# Altium schematic symbol library Microver.SchLib: 988 symbols (part 10 of 17)
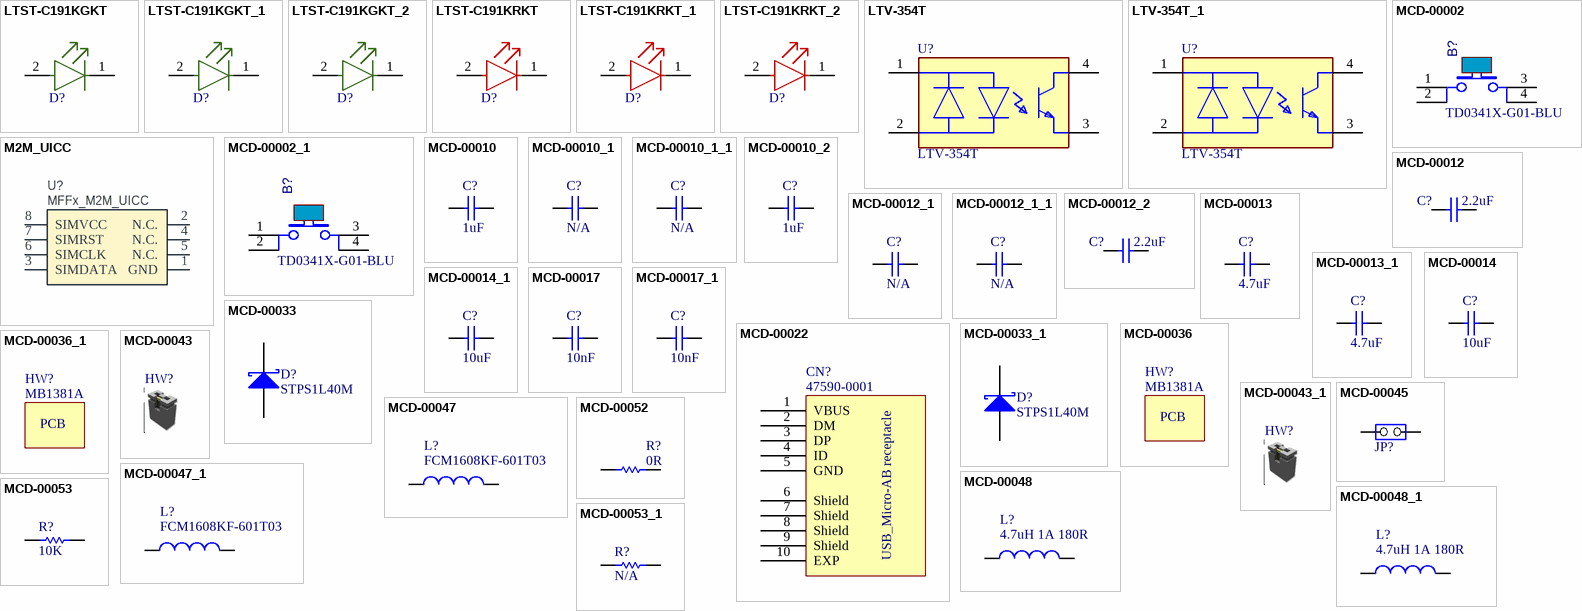
[diagram p38: symbols LTST-C191KGKT to MCD-00053_1]

## MCD-00012_1
designator C?, comment N/A
Capacitor, MLCC, 2.2uF, 10V, X5R, 10%, 0603, T=0,8mm; Internal_Part_Number: MCD-00012; Manufacturer_Part_Number: CC0603KRX5R6BB225; Manufacturer: YAGEO; Alternate_Manufacturer_Part_Number: C0603C225K8PACTU; Alternate_Manufacturer: KEMET; Provided_By: Subcon; Initial_Board_Reference: MB1274; Value: 2.2uF; Status: Released; Part_Type: Capacitor; Package: C0603; ComponentLink1Description: Yageo_Capacitor_X5R-series.pdf; ComponentLink1URL: http://tunmcdsvn.tun.st.com/Component_Datasheet_Library/Trunk/Capacitors/Yageo_Multilayer_capacitor_X5R_series_100pF_to_100uF; ECCN_US: n/a; ECCN_EU: n/a
footprint C0603
pins: 1, 2

## MCD-00012_1_1
designator C?, comment N/A
Capacitor, MLCC, 2.2uF, 10V, X5R, 10%, 0603, T=0,8mm; Internal_Part_Number: MCD-00012; Manufacturer_Part_Number: CC0603KRX5R6BB225; Manufacturer: YAGEO; Alternate_Manufacturer_Part_Number: C0603C225K8PACTU; Alternate_Manufacturer: KEMET; Provided_By: Subcon; Initial_Board_Reference: MB1274; Value: 2.2uF; Status: Released; Part_Type: Capacitor; Package: C0603; ComponentLink1Description: Yageo_Capacitor_X5R-series.pdf; ComponentLink1URL: http://tunmcdsvn.tun.st.com/Component_Datasheet_Library/Trunk/Capacitors/Yageo_Multilayer_capacitor_X5R_series_100pF_to_100uF; ECCN_US: n/a; ECCN_EU: n/a
footprint C0603
pins: 1, 2

## MCD-00012_2
designator C?, comment value 2.2uF  (hidden comment: Capacitor)
Capacitor, MLCC, 2.2uF, 10V, X5R, 10%, 0603, T=0,8mm; Internal_Part_Number: MCD-00012; Manufacturer_Part_Number: CC0603KRX5R6BB225; Manufacturer: YAGEO; Alternate_Manufacturer_Part_Number: C0603C225K8PACTU; Alternate_Manufacturer: KEMET; Provided_By: Subcon; Initial_Board_Reference: MB1274; Status: Released; Part_Type: Capacitor; Package: C0603; ComponentLink1Description: Yageo_Capacitor_X5R-series.pdf; ComponentLink1URL: http://tunmcdsvn.tun.st.com/Component_Datasheet_Library/Trunk/Capacitors/Yageo_Multilayer_capacitor_X5R_series_100pF_to_100uF; ECCN_US: n/a; ECCN_EU: n/a
footprint C0603
pins: 1, 2

## MCD-00013
designator C?, comment value 4.7uF  (hidden comment: Capacitor)
Capacitor, MLCC, 4.7uF, 50V, X7R, 10%, 1206, T=1,27mm; Internal_Part_Number: MCD-00013; Manufacturer_Part_Number: 12065C475KAT2A; Manufacturer: AVX; Provided_By: Subcon; Initial_Board_Reference: MB1274; Status: Released; Part_Type: Capacitor; Package: C1206; ComponentLink1Description: AVX_Capacitor_C0G-NP0-series.pdf; ComponentLink1URL: http://tunmcdsvn.tun.st.com/Component_Datasheet_Library/Trunk/Capacitors/AVX_Capacitor_C0G-NP0-series; ECCN_US: n/a; ECCN_EU: n/a
footprint C1206_H1P25
pins: 1, 2

## MCD-00013_1
designator C?, comment value 4.7uF  (hidden comment: Capacitor)
Capacitor, MLCC, 4.7uF, 50V, X7R, 10%, 1206, T=1,27mm; Internal_Part_Number: MCD-00013; Manufacturer_Part_Number: 12065C475KAT2A; Manufacturer: AVX; Provided_By: Subcon; Initial_Board_Reference: MB1274; Status: Released; Part_Type: Capacitor; Package: C1206; ComponentLink1Description: AVX_Capacitor_C0G-NP0-series.pdf; ComponentLink1URL: http://tunmcdsvn.tun.st.com/Component_Datasheet_Library/Trunk/Capacitors/AVX_Capacitor_C0G-NP0-series; ECCN_US: n/a; ECCN_EU: n/a
footprint C1206_H1P25
pins: 1, 2

## MCD-00014
designator C?, comment value 10uF  (hidden comment: Capacitor)
Capacitor, MLCC, 10uF, 25V, X5R, 10%, 0805, T=0,85mm; Internal_Part_Number: MCD-00014; Manufacturer_Part_Number: CC0805KRX5R8BB106; Manufacturer: YAGEO; Provided_By: Subcon; Initial_Board_Reference: mb1274; ECCN_US: n/a; ECCN_EU: n/a; ComponentLink1Description: Yageo_Capacitor_X5R-series.pdf; Status: Released; Part_Type: Capacitor; Package: C0805; ComponentLink1URL: http://tunmcdsvn.tun.st.com/Component_Datasheet_Library/Trunk/Capacitors/Yageo_Capacitor_X5R-series.pdf
footprint C0805
pins: 1, 2

## MCD-00014_1
designator C?, comment value 10uF  (hidden comment: Capacitor)
Capacitor, MLCC, 10uF, 25V, X5R, 10%, 0805, T=0,85mm; Internal_Part_Number: MCD-00014; Manufacturer_Part_Number: CC0805KRX5R8BB106; Manufacturer: YAGEO; Provided_By: Subcon; Initial_Board_Reference: mb1274; ECCN_US: n/a; ECCN_EU: n/a; ComponentLink1Description: Yageo_Capacitor_X5R-series.pdf; Status: Released; Part_Type: Capacitor; Package: C0805; ComponentLink1URL: http://tunmcdsvn.tun.st.com/Component_Datasheet_Library/Trunk/Capacitors/Yageo_Capacitor_X5R-series.pdf
footprint C0805
pins: 1, 2

## MCD-00017
designator C?, comment value 10nF  (hidden comment: Capacitor)
Capacitor, MLCC, 10nF, 50V, X7R, 10%, 0603, T=0.8mm; Internal_Part_Number: MCD-00017; Manufacturer_Part_Number: CC0603KRX7R9BB103; Manufacturer: YAGEO; Provided_By: Subcon; Initial_Board_Reference: MB1274; Status: Released; Part_Type: Capacitor; Package: C0603; ComponentLink1Description: Yageo_Capacitor_X7R-series.pdf; ComponentLink1URL: http://tunmcdsvn.tun.st.com/Component_Datasheet_Library/Trunk/Capacitors/Yageo_Multilayer_Capacitor_X7R_series_100pF_to_22uF; ECCN_US: n/a; ECCN_EU: n/a
footprint C0603
pins: 1, 2

## MCD-00017_1
designator C?, comment value 10nF  (hidden comment: Capacitor)
Capacitor, MLCC, 10nF, 50V, X7R, 10%, 0603, T=0.8mm; Internal_Part_Number: MCD-00017; Manufacturer_Part_Number: CC0603KRX7R9BB103; Manufacturer: YAGEO; Provided_By: Subcon; Initial_Board_Reference: MB1274; Status: Released; Part_Type: Capacitor; Package: C0603; ComponentLink1Description: Yageo_Capacitor_X7R-series.pdf; ComponentLink1URL: http://tunmcdsvn.tun.st.com/Component_Datasheet_Library/Trunk/Capacitors/Yageo_Multilayer_Capacitor_X7R_series_100pF_to_22uF; ECCN_US: n/a; ECCN_EU: n/a
footprint C0603
pins: 1, 2

## MCD-00022
designator CN?, comment Manufacturer_Part_Number: 47590-0001  (hidden comment: USB_uAB_47590.0001)
USB-MICRO-AB, 0.65mm, RA, SMT, Top Mount (compatible with MCD-00661 USB certified); Internal_Part_Number: MCD-00022; Part_Type: Connector; Manufacturer: MOLEX; Alternate_Manufacturer_Part_Number: ZX62D-AB-5P8(30); Alternate_Manufacturer: HIROSE; Provided_By: Subcon; Initial_Board_Reference: MB1274; Value: USB_uAB_47590.0001; Status: Released; ComponentLink1Description: Molex_Connector-USB-microAB_47590-0001.pdf; ComponentLink1URL: http://tunmcdsvn.tun.st.com/Component_Datasheet_Library/Trunk/Connectors/Molex_Connector-USB-microAB_47590-0001; ECCN_US: n/a; ECCN_EU: n/a
footprint CON_USBMICROAB_MOLEX_47590-0001_H3
pins: 1 VBUS, 2 DM, 3 DP, 4 ID, 5 GND, 6 Shield, 7 Shield, 8 Shield, 9 Shield, 10 EXP
text: USB_Micro-AB receptacle

## MCD-00033
designator D?, comment STPS1L40M
Low Drop power Schottky rectifier(1A, 40V, 0.4V); Internal_Part_Number: MCD-00033; Part_Type: Diode; Manufacturer: STMICROELECTRONICS; ECCN_US: EAR99; ECCN_EU: NEC; Provided_By: Subcon; Initial_Board_Reference: MB1274; Value: STPS1L40M; Status: Released; Manufacturer_Part_Number: STPS1L40M; ComponentLink1Description: STM_Diode_STPS1L40M_DO216-AA.pdf; ComponentLink1URL: http://tunmcdsvn.tun.st.com/Component_Datasheet_Library/Trunk/Diodes/STM_Diode_STPS1L40M_DO216-AA
footprint DIO_DO216-AA
pins: 1 A, 2 K

## MCD-00033_1
designator D?, comment STPS1L40M
Low Drop power Schottky rectifier(1A, 40V, 0.4V); Internal_Part_Number: MCD-00033; Part_Type: Diode; Manufacturer: STMICROELECTRONICS; ECCN_US: EAR99; ECCN_EU: NEC; Provided_By: Subcon; Initial_Board_Reference: MB1274; Value: STPS1L40M; Status: Released; Manufacturer_Part_Number: STPS1L40M; ComponentLink1Description: STM_Diode_STPS1L40M_DO216-AA.pdf; ComponentLink1URL: http://tunmcdsvn.tun.st.com/Component_Datasheet_Library/Trunk/Diodes/STM_Diode_STPS1L40M_DO216-AA
footprint DIO_DO216-AA
pins: 1 A, 2 K

## MCD-00036
designator HW?, comment value MB1381A  (hidden comment: PCB)  (mechanical)
PCB, xxxx for PCB ref, Y for revision; Internal_Part_Number: MCD-00036; Part_Type: Mechanical; Provided_By: Subcon; Initial_Board_Reference: MB1274; Status: Released; ECCN_US: n/a; ECCN_EU: n/a

## MCD-00036_1
designator HW?, comment value MB1381A  (hidden comment: PCB)  (mechanical)
PCB, xxxx for PCB ref, Y for revision; Internal_Part_Number: MCD-00036; Part_Type: Mechanical; Provided_By: Subcon; Initial_Board_Reference: MB1274; Status: Released; ECCN_US: n/a; ECCN_EU: n/a

## MCD-00043
designator HW?, comment Shunt 2.54mm  (value not drawn)  (mechanical)
SHUNT 2.54mm BLACK; Internal_Part_Number: MCD-00043; Manufacturer_Part_Number: SNT-100-BK-G; Manufacturer: SAMTEC; Provided_By: Subcon; PartType: Mechanical; ECCN_US: n/a; ECCN_EU: n/a; ComponentLink1Description: Samtec_Shunt_Jumper_SNT100.pdf
footprint N/A

## MCD-00043_1
designator HW?, comment Shunt 2.54mm  (value not drawn)  (mechanical)
SHUNT 2.54mm BLACK; Internal_Part_Number: MCD-00043; Manufacturer_Part_Number: SNT-100-BK-G; Manufacturer: SAMTEC; Provided_By: Subcon; PartType: Mechanical; ECCN_US: n/a; ECCN_EU: n/a; ComponentLink1Description: Samtec_Shunt_Jumper_SNT100.pdf
footprint N/A

## MCD-00045
designator JP?, comment Jumper Header 2x1  (value not drawn)
Header, 2x1, 2,54mm, VR, TH, Height 5.84mm/2.54mm; Internal_Part_Number: MCD-00045; Manufacturer_Part_Number: TSW-102-07-x-S; Manufacturer: SAMTEC; Part_Type: Connector; Value: Jumper_Header_2x1; Provided_By: Subcon; Initial_Board_Reference: mb1274; Status: Released; ComponentLink1Description: Samtec_connector_TSW-HTSW-series.pdf; ECCN_US: n/a; ECCN_EU: n/a; ComponentLink1URL: http://tunmcdsvn.tun.st.com/Component_Datasheet_Library/Trunk/Connectors/Samtec_connector_TSW-HTSW-series.pdf
footprint CON_SAMTEC_TSW-102-07-G-S
pins: 1 COMMON, 2 NO

## MCD-00047
designator L?, comment Manufacturer_Part_Number: FCM1608KF-601T03  (hidden comment: BEAD)
SMD Chip ferrite bead, 600R@100MHz +/-25%, 350mA, 500mohm DC, 0603, T=0.8mm; Internal_Part_Number: MCD-00047; Part_Type: Inductor; Manufacturer: TAI-TECH; Provided_By: Subcon; Initial_Board_Reference: MB1274; Value: 600R@100MHz; Status: Released; ComponentLink1Description: TaiTech_Bead_FCM1608_series.pdf; ComponentLink1URL: http://tunmcdsvn.tun.st.com/Component_Datasheet_Library/Trunk/Inductors/TaiTech_Bead_FCM1608_series; ECCN_US: n/a; ECCN_EU: n/a
footprint L0603
pins: 1, 2

## MCD-00047_1
designator L?, comment Manufacturer_Part_Number: FCM1608KF-601T03  (hidden comment: BEAD)
SMD Chip ferrite bead, 600R@100MHz +/-25%, 350mA, 500mohm DC, 0603, T=0.8mm; Internal_Part_Number: MCD-00047; Part_Type: Inductor; Manufacturer: TAI-TECH; Provided_By: Subcon; Initial_Board_Reference: MB1274; Value: 600R@100MHz; Status: Released; ComponentLink1Description: TaiTech_Bead_FCM1608_series.pdf; ComponentLink1URL: http://tunmcdsvn.tun.st.com/Component_Datasheet_Library/Trunk/Inductors/TaiTech_Bead_FCM1608_series; ECCN_US: n/a; ECCN_EU: n/a
footprint L0603
pins: 1, 2

## MCD-00048
designator L?, comment value 4.7uH 1A 180R  (hidden comment: Inductor)
FIXED IND 4.7UH 1A 180 MOHM 30% SMD; Internal_Part_Number: MCD-00048; Manufacturer_Part_Number: LQH32PN4R7NN0L; Manufacturer: MURATA; Provided_By: Subcon; Initial_Board_Reference: MB1274; Status: Released; Part_Type: Inductor; ComponentLink1Description: Murata_Inductor_LQH32PN4R7NN0L.pdf; ComponentLink1URL: http://tunmcdsvn.tun.st.com/Component_Datasheet_Library/Trunk/Inductors/Murata_Inductor_LQH32PN4R7NN0L; ECCN_US: n/a; ECCN_EU: n/a
footprint L1210_LQH
pins: 1, 2

## MCD-00048_1
designator L?, comment value 4.7uH 1A 180R  (hidden comment: Inductor)
FIXED IND 4.7UH 1A 180 MOHM 30% SMD; Internal_Part_Number: MCD-00048; Manufacturer_Part_Number: LQH32PN4R7NN0L; Manufacturer: MURATA; Provided_By: Subcon; Initial_Board_Reference: MB1274; Status: Released; Part_Type: Inductor; ComponentLink1Description: Murata_Inductor_LQH32PN4R7NN0L.pdf; ComponentLink1URL: http://tunmcdsvn.tun.st.com/Component_Datasheet_Library/Trunk/Inductors/Murata_Inductor_LQH32PN4R7NN0L; ECCN_US: n/a; ECCN_EU: n/a
footprint L1210_LQH
pins: 1, 2

## MCD-00052
designator R?, comment value 0R  (hidden comment: Resistor)
Resistor,0R,0402,5%,1/16W; Internal_Part_Number: MCD-00052; Manufacturer_Part_Number: RC0402JR-070RL; Manufacturer: YAGEO; Provided_By: Subcon; Initial_Board_Reference: MB1274; Status: Released; Part_Type: Resistor; Package: R0402; ComponentLink1Description: Yageo_Resistor_RC0402-series.pdf; ComponentLink1URL: http://tunmcdsvn.tun.st.com/Component_Datasheet_Library/Trunk/Resistors/Yageo_Resistor_RC0402-series; ECCN_US: n/a; ECCN_EU: n/a
footprint R0402
pins: 1, 2

## MCD-00053
designator R?, comment value 10K  (hidden comment: Resistor)
Resistor,10K,0402,1%,1/16W; Internal_Part_Number: MCD-00053; Manufacturer_Part_Number: RC0402FR-0710KL; Manufacturer: YAGEO; Provided_By: subcon; Initial_Board_Reference: MB1274; Status: Released; Part_Type: Resistor; Package: R0402; ComponentLink1Description: Yageo_Resistor_RC0402-series.pdf; ComponentLink1URL: http://tunmcdsvn.tun.st.com/Component_Datasheet_Library/Trunk/Resistors/Yageo_Resistor_RC0402-series; ECCN_US: n/a; ECCN_EU: n/a
footprint R0402
pins: 1, 2

## MCD-00053_1
designator R?, comment N/A
Resistor,10K,0402,1%,1/16W; Internal_Part_Number: MCD-00053; Manufacturer_Part_Number: RC0402FR-0710KL; Manufacturer: YAGEO; Provided_By: subcon; Initial_Board_Reference: MB1274; Value: 10K; Status: Released; Part_Type: Resistor; Package: R0402; ComponentLink1Description: Yageo_Resistor_RC0402-series.pdf; ComponentLink1URL: http://tunmcdsvn.tun.st.com/Component_Datasheet_Library/Trunk/Resistors/Yageo_Resistor_RC0402-series; ECCN_US: n/a; ECCN_EU: n/a
footprint R0402
pins: 1, 2

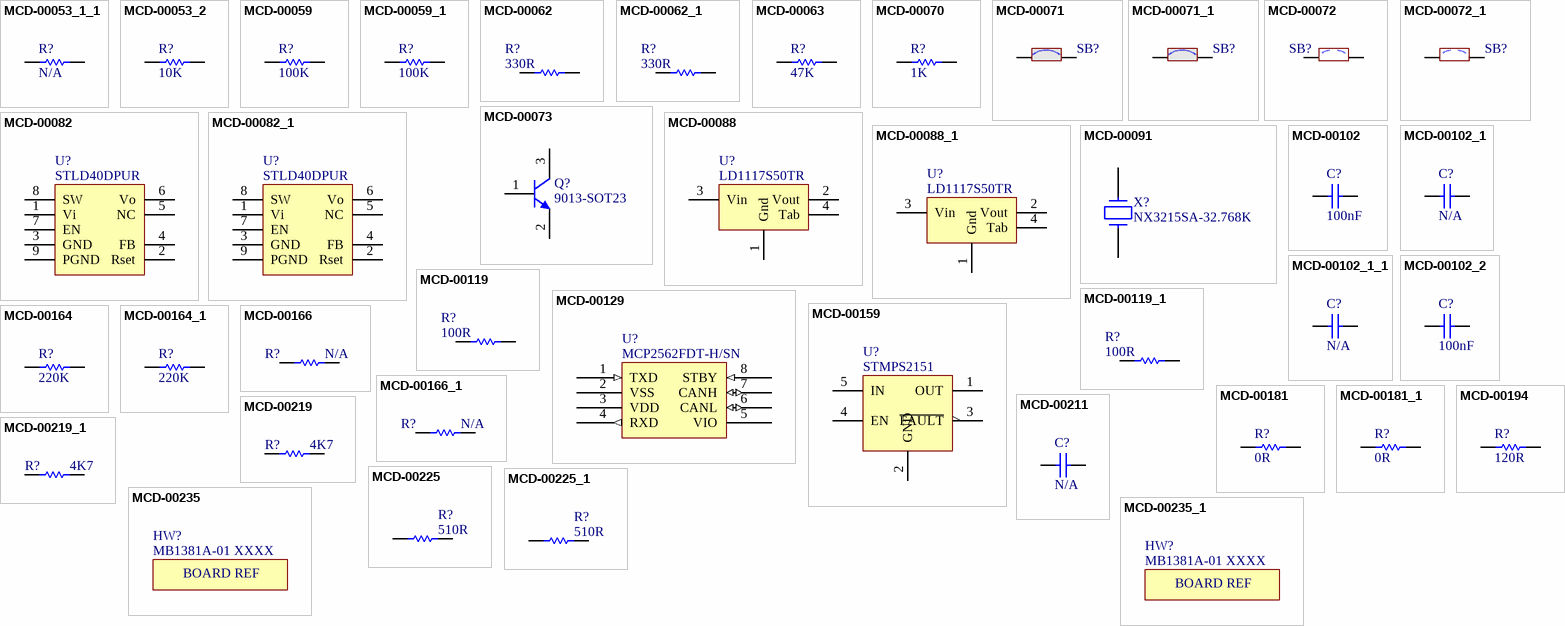
[diagram p17: symbols MCD-00053_1_1 to MCD-00235_1]

## MCD-00053_1_1
designator R?, comment N/A
Resistor,10K,0402,1%,1/16W; Internal_Part_Number: MCD-00053; Manufacturer_Part_Number: RC0402FR-0710KL; Manufacturer: YAGEO; Provided_By: subcon; Initial_Board_Reference: MB1274; Value: 10K; Status: Released; Part_Type: Resistor; Package: R0402; ComponentLink1Description: Yageo_Resistor_RC0402-series.pdf; ComponentLink1URL: http://tunmcdsvn.tun.st.com/Component_Datasheet_Library/Trunk/Resistors/Yageo_Resistor_RC0402-series; ECCN_US: n/a; ECCN_EU: n/a
footprint R0402
pins: 1, 2

## MCD-00053_2
designator R?, comment value 10K  (hidden comment: Resistor)
Resistor,10K,0402,1%,1/16W; Internal_Part_Number: MCD-00053; Manufacturer_Part_Number: RC0402FR-0710KL; Manufacturer: YAGEO; Provided_By: subcon; Initial_Board_Reference: MB1274; Status: Released; Part_Type: Resistor; Package: R0402; ComponentLink1Description: Yageo_Resistor_RC0402-series.pdf; ComponentLink1URL: http://tunmcdsvn.tun.st.com/Component_Datasheet_Library/Trunk/Resistors/Yageo_Resistor_RC0402-series; ECCN_US: n/a; ECCN_EU: n/a
footprint R0402
pins: 1, 2

## MCD-00059
designator R?, comment value 100K  (hidden comment: Resistor)
Resistor,100K,0402,1%,1/16W; Internal_Part_Number: MCD-00059; Manufacturer_Part_Number: RC0402FR-07100KL; Manufacturer: YAGEO; Alternate_Manufacturer_Part_Number: RT0402FRE07100KL; Provided_By: Subcon; Initial_Board_Reference: MB1274; Status: Released; Part_Type: Resistor; Alternate_Manufacturer: YAGEO; Package: R0402; ComponentLink1Description: Yageo_Resistor_RC0402-series.pdf; ComponentLink1URL: http://tunmcdsvn.tun.st.com/Component_Datasheet_Library/Trunk/Resistors/Yageo_Resistor_RC0402-series; ECCN_US: n/a; ECCN_EU: n/a
footprint R0402
pins: 1, 2

## MCD-00059_1
designator R?, comment value 100K  (hidden comment: Resistor)
Resistor,100K,0402,1%,1/16W; Internal_Part_Number: MCD-00059; Manufacturer_Part_Number: RC0402FR-07100KL; Manufacturer: YAGEO; Alternate_Manufacturer_Part_Number: RT0402FRE07100KL; Provided_By: Subcon; Initial_Board_Reference: MB1274; Status: Released; Part_Type: Resistor; Alternate_Manufacturer: YAGEO; Package: R0402; ComponentLink1Description: Yageo_Resistor_RC0402-series.pdf; ComponentLink1URL: http://tunmcdsvn.tun.st.com/Component_Datasheet_Library/Trunk/Resistors/Yageo_Resistor_RC0402-series; ECCN_US: n/a; ECCN_EU: n/a
footprint R0402
pins: 1, 2

## MCD-00062
designator R?, comment value 330R  (hidden comment: Resistor)
Resistor,330R,0402,1%,1/16W; Internal_Part_Number: MCD-00062; Manufacturer_Part_Number: RC0402FR-07330RL; Manufacturer: YAGEO; Provided_By: Subcon; Initial_Board_Reference: MB1274; Status: Released; Part_Type: Resistor; Package: R0402; ComponentLink1Description: Yageo_Resistor_RC0402-series.pdf; ComponentLink1URL: http://tunmcdsvn.tun.st.com/Component_Datasheet_Library/Trunk/Resistors/Yageo_Resistor_RC0402-series; ECCN_US: n/a; ECCN_EU: n/a
footprint R0402
pins: 1, 2

## MCD-00062_1
designator R?, comment value 330R  (hidden comment: Resistor)
Resistor,330R,0402,1%,1/16W; Internal_Part_Number: MCD-00062; Manufacturer_Part_Number: RC0402FR-07330RL; Manufacturer: YAGEO; Provided_By: Subcon; Initial_Board_Reference: MB1274; Status: Released; Part_Type: Resistor; Package: R0402; ComponentLink1Description: Yageo_Resistor_RC0402-series.pdf; ComponentLink1URL: http://tunmcdsvn.tun.st.com/Component_Datasheet_Library/Trunk/Resistors/Yageo_Resistor_RC0402-series; ECCN_US: n/a; ECCN_EU: n/a
footprint R0402
pins: 1, 2

## MCD-00063
designator R?, comment value 47K  (hidden comment: Resistor)
Resistor,47K,0402,1%,1/16W; Internal_Part_Number: MCD-00063; Manufacturer_Part_Number: RC0402FR-0747KL; Manufacturer: YAGEO; Provided_By: Subcon; Initial_Board_Reference: MB1274; Status: Released; Part_Type: Resistor; Package: R0402; ComponentLink1Description: Yageo_Resistor_RC0402-series.pdf; ComponentLink1URL: http://tunmcdsvn.tun.st.com/Component_Datasheet_Library/Trunk/Resistors/Yageo_Resistor_RC0402-series; ECCN_US: n/a; ECCN_EU: n/a
footprint R0402
pins: 1, 2

## MCD-00070
designator R?, comment value 1K  (hidden comment: Resistor)
Resistor,1K,0603,1%,1/10W; Internal_Part_Number: MCD-00070; Manufacturer_Part_Number: RC0603FR-071KL; Manufacturer: YAGEO; Provided_By: Subcon; Initial_Board_Reference: mb1274; Status: Released; Part_Type: Resistor; Package: R0603; ComponentLink1Description: Yageo_Resistor_RC0603-series.pdf; ComponentLink1URL: http://tunmcdsvn.tun.st.com/Component_Datasheet_Library/Trunk/Resistors/Yageo_Resistor_RC0603-series.pdf; ECCN_US: n/a; ECCN_EU: n/a
footprint R0603
pins: 1, 2

## MCD-00071
designator SB?, comment SB_ON  (value not drawn)
Solder Bridge ON; Internal_Part_Number: MCD-00071; Part_Type: Mechanical; Manufacturer_Part_Number: RCG06030000Z0EA; Provided_By: Subcon; Initial_Board_Reference: mb1274; ECCN_US: n/a; ECCN_EU: n/a; Status: Released
footprint SOLDER-BRIDGE_R0603-0R
pins: 1, 2

## MCD-00071_1
designator SB?, comment SB_ON  (value not drawn)
Solder Bridge ON; Internal_Part_Number: MCD-00071; Part_Type: Mechanical; Provided_By: Subcon; Initial_Board_Reference: mb1274; ECCN_US: n/a; ECCN_EU: n/a; Status: Released
footprint SOLDER-BRIDGE_R0603-0R
pins: 1, 2

## MCD-00072
designator SB?, comment SB_OFF  (value not drawn)
Solder Bridge OFF; Internal_Part_Number: MCD-00072; Part_Type: Mechanical; Manufacturer_Part_Number: RCG06030000Z0EA; Initial_Board_Reference: mb1274; Status: Released; ECCN_US: n/a; ECCN_EU: n/a; Provided_By: n/a
footprint SOLDER-BRIDGE_R0603-0R
pins: 1, 2

## MCD-00072_1
designator SB?, comment SB_OFF  (value not drawn)
Solder Bridge OFF; Internal_Part_Number: MCD-00072; Part_Type: Mechanical; Initial_Board_Reference: mb1274; Status: Released; ECCN_US: n/a; ECCN_EU: n/a; Provided_By: n/a
footprint SOLDER-BRIDGE_R0603-0R
pins: 1, 2

## MCD-00073
designator Q?, comment 9013-SOT23
NPN Bipolar Transistor; Internal_Part_Number: MCD-00073; Part_Type: IC; Manufacturer_Part_Number: BSR14; Manufacturer: NXP; ECCN_US: EAR99; ECCN_EU: NEC; Provided_By: Subcon; Initial_Board_Reference: MB1274; Revision: *; Value: 9013-SOT23; Status: Released; ComponentLink1Description: NXP_Transistor_BSR14.pdf; ComponentLink1URL: http://tunmcdsvn.tun.st.com/Component_Datasheet_Library/Trunk/IC/NXP_Transistor_BSR14
footprint NPN_SOT23
pins: 1 B, 2 E, 3 C

## MCD-00082
designator U?, comment STLD40DPUR
White LED power supply for large display backlight, QFN8; Internal_Part_Number: MCD-00082; Part_Type: IC; Manufacturer: STMICROELECTRONICS; ECCN_US: EAR99; ECCN_EU: NEC; Provided_By: Subcon; Initial_Board_Reference: MB1274; Value: STLD40DPUR; Status: Released; Manufacturer_Part_Number: STLD40DPUR; ComponentLink1Description: STM_White-LED-PWR_STLD40DPUR_QFN8.pdf; ComponentLink1URL: http://tunmcdsvn.tun.st.com/Component_Datasheet_Library/Trunk/IC/STM_White-LED-PWR_STLD40DPUR_QFN8
footprint ICC_QFN8-EPAD_3X3_P065
pins: 1 Vi, 2 Rset, 3 GND, 4 FB, 5 NC, 6 Vo, 7 EN, 8 SW, 9 PGND

## MCD-00082_1
designator U?, comment STLD40DPUR
White LED power supply for large display backlight, QFN8; Internal_Part_Number: MCD-00082; Part_Type: IC; Manufacturer: STMICROELECTRONICS; ECCN_US: EAR99; ECCN_EU: NEC; Provided_By: Subcon; Initial_Board_Reference: MB1274; Value: STLD40DPUR; Status: Released; Manufacturer_Part_Number: STLD40DPUR; ComponentLink1Description: STM_White-LED-PWR_STLD40DPUR_QFN8.pdf; ComponentLink1URL: http://tunmcdsvn.tun.st.com/Component_Datasheet_Library/Trunk/IC/STM_White-LED-PWR_STLD40DPUR_QFN8
footprint ICC_QFN8-EPAD_3X3_P065
pins: 1 Vi, 2 Rset, 3 GND, 4 FB, 5 NC, 6 Vo, 7 EN, 8 SW, 9 PGND

## MCD-00088
designator U?, comment LD1117S50TR
IC REG LDO 5V 0.8A SOT223; Internal_Part_Number: MCD-00088; Manufacturer: STMICROELECTRONICS; ECCN_US: EAR99; ECCN_EU: NEC; Provided_By: Subcon; Initial_Board_Reference: mb1274; Value: LD1117S50TR; Status: Released; Part_Type: IC; Manufacturer_Part_Number: LD1117S50TR; ComponentLink1Description: STM_LDO_LD1117.pdf; ComponentLink1URL: http://tunmcdsvn.tun.st.com/Component_Datasheet_Library/Trunk/IC/STM_LDO_LD1117.pdf
footprint REG_SOT223-TAB
pins: 1 Gnd, 2 Vout, 3 Vin, 4 Tab

## MCD-00088_1
designator U?, comment LD1117S50TR
IC REG LDO 5V 0.8A SOT223; Internal_Part_Number: MCD-00088; Manufacturer: STMICROELECTRONICS; ECCN_US: EAR99; ECCN_EU: NEC; Provided_By: Subcon; Initial_Board_Reference: mb1274; Value: LD1117S50TR; Status: Released; Part_Type: IC; Manufacturer_Part_Number: LD1117S50TR; ComponentLink1Description: STM_LDO_LD1117.pdf; ComponentLink1URL: http://tunmcdsvn.tun.st.com/Component_Datasheet_Library/Trunk/IC/STM_LDO_LD1117.pdf
footprint REG_SOT223-TAB
pins: 1 Gnd, 2 Vout, 3 Vin, 4 Tab

## MCD-00091
designator X?, comment value NX3215SA-32.768K  (hidden comment: XTAL_32K_NX3215SA)
Crystal 32.768kHz, 6pF, -+20PPM, R=50K, SMD; Internal_Part_Number: MCD-00091; Part_Type: Crystal_Osc; Manufacturer_Part_Number: NX3215SA 32.768KHz EXS00A-MU00525; Manufacturer: NDK; ECCN_US: EAR99; ECCN_EU: NEC; Provided_By: STM; Initial_Board_Reference: mb1274; Status: Released; ComponentLink1Description: NDK_Crystal-For-ST_NX3215SA 32.768KHz EXS00A-MU00525 (EXS10B-21238).pdf; ComponentLink1URL: http://tunmcdsvn.tun.st.com/Component_Datasheet_Library/Trunk/Crystal_Osc/NDK_Crystal-For-ST_NX3215SA 32.768KHz EXS00A-MU00525 (EXS10B-21238).pdf
footprint CRY_NX3215SA_2P
pins: 1, 2
2 alternate drawings of the same symbol

## MCD-00102
designator C?, comment value 100nF  (hidden comment: Capacitor)
Capacitor, MLCC, 100nF, 16V, X7R, 10%, 0402, T=0,5mm; Internal_Part_Number: MCD-00102; Manufacturer_Part_Number: CC0402KRX7R7BB104; Manufacturer: YAGEO; Provided_By: Subcon; Initial_Board_Reference: MB1262; Status: Released; Part_Type: Capacitor; Package: C0402; ComponentLink1Description: Yageo_Capacitor_X7R-series.pdf; ComponentLink1URL: http://tunmcdsvn.tun.st.com/Component_Datasheet_Library/Trunk/Capacitors/Yageo_Multilayer_Capacitor_X7R_series_100pF_to_22uF; ECCN_US: n/a; ECCN_EU: n/a
footprint C0402
pins: 1, 2

## MCD-00102_1
designator C?, comment N/A
Capacitor, MLCC, 100nF, 16V, X7R, 10%, 0402, T=0,5mm; Internal_Part_Number: MCD-00102; Manufacturer_Part_Number: CC0402KRX7R7BB104; Manufacturer: YAGEO; Provided_By: Subcon; Initial_Board_Reference: MB1262; Value: 100nF; Status: Released; Part_Type: Capacitor; Package: C0402; ComponentLink1Description: Yageo_Capacitor_X7R-series.pdf; ComponentLink1URL: http://tunmcdsvn.tun.st.com/Component_Datasheet_Library/Trunk/Capacitors/Yageo_Multilayer_Capacitor_X7R_series_100pF_to_22uF; ECCN_US: n/a; ECCN_EU: n/a
footprint C0402
pins: 1, 2

## MCD-00102_1_1
designator C?, comment N/A
Capacitor, MLCC, 100nF, 16V, X7R, 10%, 0402, T=0,5mm; Internal_Part_Number: MCD-00102; Manufacturer_Part_Number: CC0402KRX7R7BB104; Manufacturer: YAGEO; Provided_By: Subcon; Initial_Board_Reference: MB1262; Value: 100nF; Status: Released; Part_Type: Capacitor; Package: C0402; ComponentLink1Description: Yageo_Capacitor_X7R-series.pdf; ComponentLink1URL: http://tunmcdsvn.tun.st.com/Component_Datasheet_Library/Trunk/Capacitors/Yageo_Multilayer_Capacitor_X7R_series_100pF_to_22uF; ECCN_US: n/a; ECCN_EU: n/a
footprint C0402
pins: 1, 2

## MCD-00102_2
designator C?, comment value 100nF  (hidden comment: Capacitor)
Capacitor, MLCC, 100nF, 16V, X7R, 10%, 0402, T=0,5mm; Internal_Part_Number: MCD-00102; Manufacturer_Part_Number: CC0402KRX7R7BB104; Manufacturer: YAGEO; Provided_By: Subcon; Initial_Board_Reference: MB1262; Status: Released; Part_Type: Capacitor; Package: C0402; ComponentLink1Description: Yageo_Capacitor_X7R-series.pdf; ComponentLink1URL: http://tunmcdsvn.tun.st.com/Component_Datasheet_Library/Trunk/Capacitors/Yageo_Multilayer_Capacitor_X7R_series_100pF_to_22uF; ECCN_US: n/a; ECCN_EU: n/a
footprint C0402
pins: 1, 2

## MCD-00119
designator R?, comment value 100R  (hidden comment: Resistor)
Resistor,100R,0402,1%,1/16W; Internal_Part_Number: MCD-00119; Manufacturer_Part_Number: RC0402FR-07100RL; Manufacturer: YAGEO; Provided_By: Subcon; Initial_Board_Reference: MB1262; Status: Released; Part_Type: Resistor; Package: R0402; ComponentLink1Description: Yageo_Resistor_RC0402-series.pdf; ComponentLink1URL: http://tunmcdsvn.tun.st.com/Component_Datasheet_Library/Trunk/Resistors/Yageo_Resistor_RC0402-series; ECCN_US: n/a; ECCN_EU: n/a
footprint R0402
pins: 1, 2

## MCD-00119_1
designator R?, comment value 100R  (hidden comment: Resistor)
Resistor,100R,0402,1%,1/16W; Internal_Part_Number: MCD-00119; Manufacturer_Part_Number: RC0402FR-07100RL; Manufacturer: YAGEO; Provided_By: Subcon; Initial_Board_Reference: MB1262; Status: Released; Part_Type: Resistor; Package: R0402; ComponentLink1Description: Yageo_Resistor_RC0402-series.pdf; ComponentLink1URL: http://tunmcdsvn.tun.st.com/Component_Datasheet_Library/Trunk/Resistors/Yageo_Resistor_RC0402-series; ECCN_US: n/a; ECCN_EU: n/a
footprint R0402
pins: 1, 2

## MCD-00129
designator U?, comment value MCP2562FDT-H/SN  (hidden comment: MCP2562FD)
High-Speed CAN Flexible Data Rate Transceiver; Internal_Part_Number: MCD-00129; Part_Type: IC; Manufacturer: MICROCHIP; ECCN_US: EAR99; ECCN_EU: NEC; Provided_By: Subcon; Initial_Board_Reference: MB1262; Status: Released; Manufacturer_Part_Number: MCP2562FDT-H/SN; ComponentLink1Description: Microchip_CAN Transceiver_MCP2562FD.pdf; ComponentLink1URL: http://tunmcdsvn.tun.st.com/Component_Datasheet_Library/Trunk/IC/Microchip_CAN Transceiver_MCP2562FD
footprint ICC_SO8_5X4_P127
pins: 1 TXD (in), 2 VSS (power), 3 VDD (power), 4 RXD (out), 5 VIO (power), 6 CANL (io), 7 CANH (io), 8 STBY (in)

## MCD-00159
designator U?, comment value STMPS2151  (hidden comment: STMPS2151STR)
500mA, Enhanced single channel power switches with active high enable pin; Internal_Part_Number: MCD-00159; Part_Type: IC; Manufacturer: STMICROELECTRONICS; ECCN_US: EAR99; ECCN_EU: NEC; Provided_By: Subcon; Initial_Board_Reference: MB1264; Status: Footprint available; Manufacturer_Part_Number: STMPS2151STR; ComponentLink1Description: STM_PWR-Switch_STMPS2151STR.pdf; ComponentLink1URL: http://tunmcdsvn.tun.st.com/Component_Datasheet_Library/Trunk/IC/STM_PWR-Switch_STMPS2151STR
footprint MOS_SOT23-5L
pins: 1 OUT, 2 GND, 3 ~{FAULT}, 4 EN, 5 IN

## MCD-00164
designator R?, comment value 220K  (hidden comment: Resistor)
Resistor,220K,0402,1%,1/16W; Internal_Part_Number: MCD-00164; Manufacturer_Part_Number: RC0402FR-07220KL; Manufacturer: YAGEO; Provided_By: Subcon; Initial_Board_Reference: MB1264; Status: Footprint available; Part_Type: Resistor; Package: R0402; ComponentLink1Description: Yageo_Resistor_RC0402-series.pdf; ComponentLink1URL: http://tunmcdsvn.tun.st.com/Component_Datasheet_Library/Trunk/Resistors/Yageo_Resistor_RC0402-series; ECCN_US: n/a; ECCN_EU: n/a
footprint R0402
pins: 1, 2

## MCD-00164_1
designator R?, comment value 220K  (hidden comment: Resistor)
Resistor,220K,0402,1%,1/16W; Internal_Part_Number: MCD-00164; Manufacturer_Part_Number: RC0402FR-07220KL; Manufacturer: YAGEO; Provided_By: Subcon; Initial_Board_Reference: MB1264; Status: Footprint available; Part_Type: Resistor; Package: R0402; ComponentLink1Description: Yageo_Resistor_RC0402-series.pdf; ComponentLink1URL: http://tunmcdsvn.tun.st.com/Component_Datasheet_Library/Trunk/Resistors/Yageo_Resistor_RC0402-series; ECCN_US: n/a; ECCN_EU: n/a
footprint R0402
pins: 1, 2

## MCD-00166
designator R?, comment N/A
Resistor,120K,0402,1%,1/16W; Internal_Part_Number: MCD-00166; Manufacturer_Part_Number: RC0402FR-07120KL; Manufacturer: YAGEO; Provided_By: Subcon; Initial_Board_Reference: MB1264; Value: 120K; Status: Footprint available; Part_Type: Resistor; Package: R0402; ComponentLink1Description: Yageo_Resistor_RC0402-series.pdf; ComponentLink1URL: http://tunmcdsvn.tun.st.com/Component_Datasheet_Library/Trunk/Resistors/Yageo_Resistor_RC0402-series; ECCN_US: n/a; ECCN_EU: n/a
footprint R0402
pins: 1, 2

## MCD-00166_1
designator R?, comment N/A
Resistor,120K,0402,1%,1/16W; Internal_Part_Number: MCD-00166; Manufacturer_Part_Number: RC0402FR-07120KL; Manufacturer: YAGEO; Provided_By: Subcon; Initial_Board_Reference: MB1264; Value: 120K; Status: Footprint available; Part_Type: Resistor; Package: R0402; ComponentLink1Description: Yageo_Resistor_RC0402-series.pdf; ComponentLink1URL: http://tunmcdsvn.tun.st.com/Component_Datasheet_Library/Trunk/Resistors/Yageo_Resistor_RC0402-series; ECCN_US: n/a; ECCN_EU: n/a
footprint R0402
pins: 1, 2

## MCD-00181
designator R?, comment value 0R  (hidden comment: Resistor)
Resistor,0R,0603,ULO; Internal_Part_Number: MCD-00181; Manufacturer_Part_Number: PMR03EZPJ000; Manufacturer: ROHM; Provided_By: Subcon; Status: Released; Part_Type: Resistor; Package: R0603; ComponentLink1Description: ROHM_ULtra low Ohmic Resistor _PMR10EZPJ000.pdf; ComponentLink1URL: http://tunmcdsvn.tun.st.com/Component_Datasheet_Library/Trunk/Resistors/ROHM_ULtra low Ohmic Resistor _PMR10EZPJ000.pdf; ECCN_US: n/a; ECCN_EU: n/a
footprint R0603
pins: 1, 2

## MCD-00181_1
designator R?, comment value 0R  (hidden comment: Resistor)
Resistor,0R,0603,ULO; Internal_Part_Number: MCD-00181; Manufacturer_Part_Number: PMR03EZPJ000; Manufacturer: ROHM; Provided_By: Subcon; Status: Released; Part_Type: Resistor; Package: R0603; ComponentLink1Description: ROHM_ULtra low Ohmic Resistor _PMR10EZPJ000.pdf; ComponentLink1URL: http://tunmcdsvn.tun.st.com/Component_Datasheet_Library/Trunk/Resistors/ROHM_ULtra low Ohmic Resistor _PMR10EZPJ000.pdf; ECCN_US: n/a; ECCN_EU: n/a
footprint R0603
pins: 1, 2

## MCD-00194
designator R?, comment value 120R  (hidden comment: Resistor)
Resistor,120R,0402,1%,1/16W; Internal_Part_Number: MCD-00194; Manufacturer_Part_Number: RC0402FR-07120RL; Manufacturer: YAGEO; Provided_By: Subcon; Status: Released; Part_Type: Resistor; Package: R0402; ComponentLink1Description: Yageo_Resistor_RC0402-series.pdf; ComponentLink1URL: http://tunmcdsvn.tun.st.com/Component_Datasheet_Library/Trunk/Resistors/Yageo_Resistor_RC0402-series; ECCN_US: n/a; ECCN_EU: n/a
footprint R0402
pins: 1, 2

## MCD-00211
designator C?, comment N/A
Capacitor, MLCC, 100nF, 16V, X7R, 10%, 0603, T=0,8mm; Internal_Part_Number: MCD-00211; Manufacturer_Part_Number: CC0603KRX7R7BB104; Manufacturer: YAGEO; Provided_By: Subcon; Initial_Board_Reference: mb1319; Value: 100nF; Status: Released; Part_Type: Capacitor; Package: C0603; ComponentLink1Description: Yageo_Capacitor_X7R-series.pdf; ComponentLink1URL: http://tunmcdsvn.tun.st.com/Component_Datasheet_Library/Trunk/Capacitors/Yageo_Capacitor_X7R-series.pdf; ECCN_US: n/a; ECCN_EU: n/a
footprint C0603
pins: 1, 2

## MCD-00219
designator R?, comment value 4K7  (hidden comment: Resistor)
Resistor,4K7,0603,1%,1/10W; Internal_Part_Number: MCD-00219; Manufacturer_Part_Number: RC0603FR-074K7L; Manufacturer: YAGEO; Provided_By: Subcon; Initial_Board_Reference: mb1319; Status: Released; Part_Type: Resistor; Package: R0603; ComponentLink1Description: Yageo_Resistor_RC0603-series.pdf; ComponentLink1URL: http://tunmcdsvn.tun.st.com/Component_Datasheet_Library/Trunk/Resistors/Yageo_Resistor_RC0603-series.pdf; ECCN_US: n/a; ECCN_EU: n/a
footprint R0603
pins: 1, 2

## MCD-00219_1
designator R?, comment value 4K7  (hidden comment: Resistor)
Resistor,4K7,0603,1%,1/10W; Internal_Part_Number: MCD-00219; Manufacturer_Part_Number: RC0603FR-074K7L; Manufacturer: YAGEO; Provided_By: Subcon; Initial_Board_Reference: mb1319; Status: Released; Part_Type: Resistor; Package: R0603; ComponentLink1Description: Yageo_Resistor_RC0603-series.pdf; ComponentLink1URL: http://tunmcdsvn.tun.st.com/Component_Datasheet_Library/Trunk/Resistors/Yageo_Resistor_RC0603-series.pdf; ECCN_US: n/a; ECCN_EU: n/a
footprint R0603
pins: 1, 2

## MCD-00225
designator R?, comment value 510R  (hidden comment: Resistor)
Resistor,510R,0603,1%,1/10W; Internal_Part_Number: MCD-00225; Manufacturer_Part_Number: RC0603FR-07510RL; Manufacturer: YAGEO; Provided_By: Subcon; Initial_Board_Reference: mb1319; ECCN_US: n/a; ECCN_EU: n/a; ComponentLink1Description: Yageo_Resistor_RC0603-series.pdf; Status: Released; Part_Type: Resistor; Package: R0603; ComponentLink1URL: http://tunmcdsvn.tun.st.com/Component_Datasheet_Library/Trunk/Resistors/Yageo_Resistor_RC0603-series.pdf
footprint R0603
pins: 1, 2

## MCD-00225_1
designator R?, comment value 510R  (hidden comment: Resistor)
Resistor,510R,0603,1%,1/10W; Internal_Part_Number: MCD-00225; Manufacturer_Part_Number: RC0603FR-07510RL; Manufacturer: YAGEO; Provided_By: Subcon; Initial_Board_Reference: mb1319; ECCN_US: n/a; ECCN_EU: n/a; ComponentLink1Description: Yageo_Resistor_RC0603-series.pdf; Status: Released; Part_Type: Resistor; Package: R0603; ComponentLink1URL: http://tunmcdsvn.tun.st.com/Component_Datasheet_Library/Trunk/Resistors/Yageo_Resistor_RC0603-series.pdf
footprint R0603
pins: 1, 2

## MCD-00235
designator HW?, comment value MB1381A-01 XXXX  (hidden comment: STICKER_BOARD_REF)  (mechanical)
Sticker to mention board reference + serial number; Internal_Part_Number: MCD-00235; Part_Type: Mechanical; Provided_By: Subcon; Initial_Board_Reference: mb1319; ECCN_US: n/a; ECCN_EU: n/a; Status: Released
text: BOARD REF

## MCD-00235_1
designator HW?, comment value MB1381A-01 XXXX  (hidden comment: STICKER_BOARD_REF)  (mechanical)
Sticker to mention board reference + serial number; Internal_Part_Number: MCD-00235; Part_Type: Mechanical; Provided_By: Subcon; Initial_Board_Reference: mb1319; ECCN_US: n/a; ECCN_EU: n/a; Status: Released
text: BOARD REF

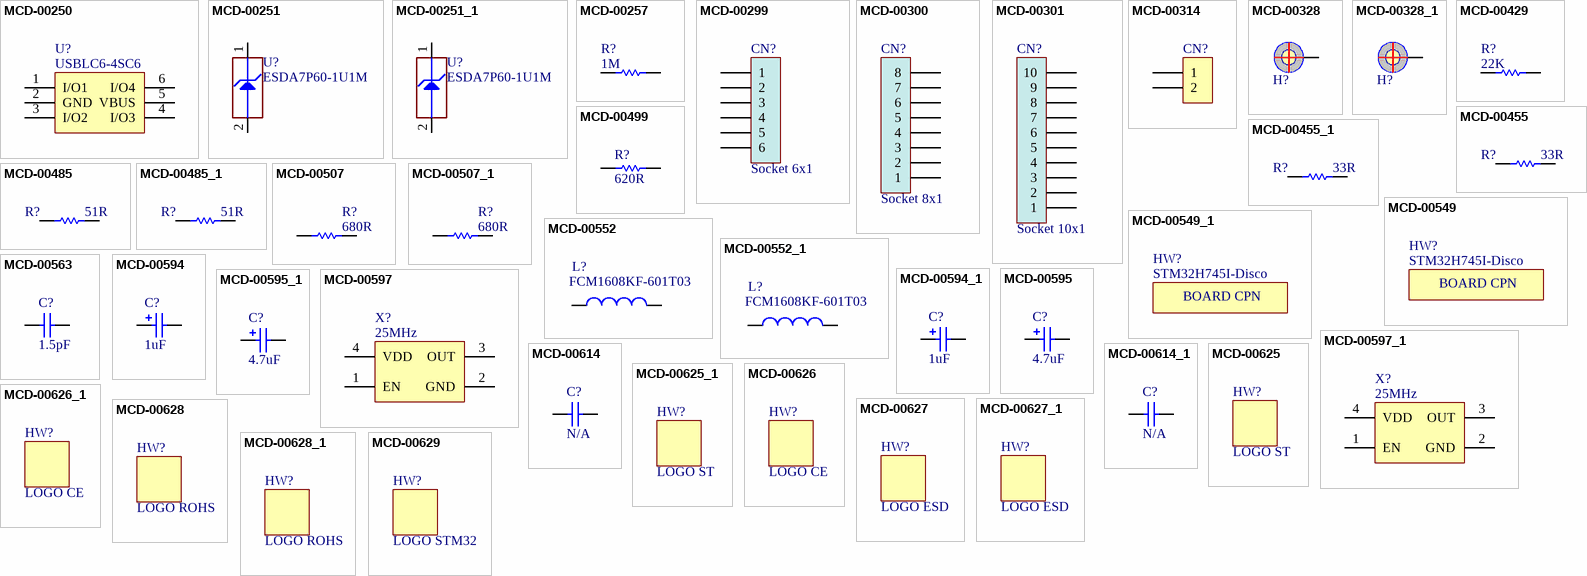
[diagram p18: symbols MCD-00250 to MCD-00629]

## MCD-00250
designator U?, comment USBLC6-4SC6
Very low capacitance ESD protection , 4 lines; Internal_Part_Number: MCD-00250; Part_Type: IC; Manufacturer: STMICROELECTRONICS; ECCN_US: EAR99; ECCN_EU: NEC; Provided_By: Subcon; Initial_Board_Reference: MB1311; Value: USBLC6-4SC6; Status: Released; Manufacturer_Part_Number: USBLC6-4SC6; ComponentLink1Description: ST_USBLC6-4SC6.pdf; ComponentLink1URL: http://tunmcdsvn.tun.st.com/Component_Datasheet_Library/Trunk/Diodes/STM_ESD_USBLC6-4SC6
footprint ESD_SOT23-6L
pins: 1 I/O1, 2 GND, 3 I/O2, 4 I/O3, 5 VBUS, 6 I/O4

## MCD-00251
designator U?, comment value ESDA7P60-1U1M  (hidden comment: ESD-TRANSIL)
High power transient voltage suppressor, 7V breakdown; Internal_Part_Number: MCD-00251; Part_Type: IC; Manufacturer: STMICROELECTRONICS; ECCN_US: EAR99; ECCN_EU: NEC; Provided_By: Subcon; Initial_Board_Reference: MB1311; Status: Released; Manufacturer_Part_Number: ESDA7P60-1U1M; ComponentLink1Description: STM_ESD_ESDA7P60-1U1M.pdf; ComponentLink1URL: http://tunmcdsvn.tun.st.com/Component_Datasheet_Library/Trunk/Diodes/STM_ESD_ESDA7P60-1U1M
footprint ESD_QFN2_1P6X1_P125
pins: 1 IO1, 2 GND

## MCD-00251_1
designator U?, comment value ESDA7P60-1U1M  (hidden comment: ESD-TRANSIL)
High power transient voltage suppressor, 7V breakdown; Internal_Part_Number: MCD-00251; Part_Type: IC; Manufacturer: STMICROELECTRONICS; ECCN_US: EAR99; ECCN_EU: NEC; Provided_By: Subcon; Initial_Board_Reference: MB1311; Status: Released; Manufacturer_Part_Number: ESDA7P60-1U1M; ComponentLink1Description: STM_ESD_ESDA7P60-1U1M.pdf; ComponentLink1URL: http://tunmcdsvn.tun.st.com/Component_Datasheet_Library/Trunk/Diodes/STM_ESD_ESDA7P60-1U1M
footprint ESD_QFN2_1P6X1_P125
pins: 1 IO1, 2 GND

## MCD-00257
designator R?, comment value 1M  (hidden comment: Resistor)
Resistor,1M,0603,1%,1/10W; Internal_Part_Number: MCD-00257; Manufacturer_Part_Number: RC0603FR-071ML; Manufacturer: YAGEO; Provided_By: Subcon; Initial_Board_Reference: mb1319; Status: Released; Part_Type: Resistor; Package: R0603; ComponentLink1Description: Yageo_Resistor_RC0603-series.pdf; ComponentLink1URL: http://tunmcdsvn.tun.st.com/Component_Datasheet_Library/Trunk/Resistors/Yageo_Resistor_RC0603-series.pdf; ECCN_US: n/a; ECCN_EU: n/a
footprint R0603
pins: 1, 2

## MCD-00299
designator CN?, comment Socket 6x1
Socket, 6x1, 2.54mm, VR, SMT, Height 9.78mm; Internal_Part_Number: MCD-00299; Part_Type: Connector; Manufacturer_Part_Number: SSW-106-22-L-S-VS; Manufacturer: SAMTEC; Provided_By: Subcon; Initial_Board_Reference: MB1272; Value: Socket 6x1; Status: Checked; ComponentLink1Description: SAMTEC_SSW_SMT.pdf; ComponentLink1URL: http://tunmcdsvn.tun.st.com/Component_Datasheet_Library/Trunk/Connectors/Samtec_SSW_smt_series; ECCN_US: n/a; ECCN_EU: n/a
footprint CON_SAMTEC_SSW-106-22-X-S-VS
pins: 1, 2, 3, 4, 5, 6

## MCD-00300
designator CN?, comment Socket 8x1
Socket, 8x1, 2.54mm, VR, SMT, Height 9.78mm; Internal_Part_Number: MCD-00300; Part_Type: Connector; Manufacturer_Part_Number: SSW-108-22-L-S-VS; Manufacturer: SAMTEC; Provided_By: Subcon; Initial_Board_Reference: MB1272; Value: Socket 8x1; Status: Checked; ComponentLink1Description: SAMTEC_SSW_SMT.pdf; ComponentLink1URL: http://tunmcdsvn.tun.st.com/Component_Datasheet_Library/Trunk/Connectors/Samtec_SSW_smt_series; ECCN_US: n/a; ECCN_EU: n/a
footprint CON_SAMTEC_SSW-108-22-X-S-VS
pins: 1, 2, 3, 4, 5, 6, 7, 8

## MCD-00301
designator CN?, comment Socket 10x1
Socket, 10x1, 2.54mm, VR, SMT, Height 9.78mm; Internal_Part_Number: MCD-00301; Manufacturer_Part_Number: SSW-110-22-L-S-VS; Manufacturer: SAMTEC; Part_Type: Connector; Provided_By: Subcon; Initial_Board_Reference: MB1272; Value: Socket 10x1; ECCN_US: n/a; ECCN_EU: n/a; ComponentLink1Description: SAMTEC_SSW_SMT.pdf; Status: Checked; ComponentLink1URL: http://tunmcdsvn.tun.st.com/Component_Datasheet_Library/Trunk/Connectors/Samtec_SSW_smt_series
footprint CON_SAMTEC_SSW-110-22-X-S-VS
pins: 1, 2, 3, 4, 5, 6, 7, 8, 9, 10

## MCD-00314
designator CN?, comment Header 2x1  (value not drawn)
Header, 2x1, 2.54mm, VR, TH, Height 6mm/3mm; Internal_Part_Number: MCD-00314; Part_Type: Connector; Manufacturer_Part_Number: PHFS25-11-02-G0B115-T-1; Manufacturer: JIUBABA; Provided_By: Subcon; Initial_Board_Reference: MB1311; Value: header 2x1; Status: Released; ComponentLink1Description: Jiubaba_PHFS25-11XXXXXXXXXX.pdf; ComponentLink1URL: http://tunmcdsvn.tun.st.com/Component_Datasheet_Library/Trunk/Connectors/Jiubaba_PHFS25_11XXXXXXXXXX; ECCN_US: n/a; ECCN_EU: n/a
footprint CON_988-JIUBABA_PHFS25-11-02-G0B115-T-1
pins: 1, 2

## MCD-00328
designator H?, comment POSITION HOLE C7D3R5  (value not drawn)  (no BOM)
Internal_Part_Number: MCD-00328; Part_Type: Mechanical; Initial_Board_Reference: MB1311; Status: Released; ECCN_US: n/a; ECCN_EU: n/a; Provided_By: n/a
footprint PTH_350_700
pins: 1

## MCD-00328_1
designator H?, comment POSITION HOLE C7D3R5  (value not drawn)  (no BOM)
Internal_Part_Number: MCD-00328; Part_Type: Mechanical; Initial_Board_Reference: MB1311; Status: Released; ECCN_US: n/a; ECCN_EU: n/a; Provided_By: n/a
footprint PTH_350_700
pins: 1

## MCD-00429
designator R?, comment value 22K  (hidden comment: Resistor)
Resistor,22K,0402,1%,1/16W; Internal_Part_Number: MCD-00429; Manufacturer_Part_Number: RC0402FR-0722KL; Manufacturer: YAGEO; Provided_By: Subcon; Status: Released; Part_Type: Resistor; Package: R0402; ComponentLink1Description: Yageo_Resistor_RC0402-series.pdf; ComponentLink1URL: http://tunmcdsvn.tun.st.com/Component_Datasheet_Library/Trunk/Resistors/Yageo_Resistor_RC0402-series; ECCN_US: n/a; ECCN_EU: n/a
footprint R0402
pins: 1, 2

## MCD-00455
designator R?, comment value 33R  (hidden comment: Resistor)
Resistor,33R,0402,1%,1/16W; Internal_Part_Number: MCD-00455; Manufacturer_Part_Number: RC0402FR-0733RL; Manufacturer: YAGEO; Provided_By: Subcon; Status: Released; Part_Type: Resistor; Package: R0402; ComponentLink1Description: Yageo_Resistor_RC0402-series.pdf; ComponentLink1URL: http://tunmcdsvn.tun.st.com/Component_Datasheet_Library/Trunk/Resistors/Yageo_Resistor_RC0402-series; ECCN_US: n/a; ECCN_EU: n/a
footprint R0402
pins: 1, 2

## MCD-00455_1
designator R?, comment value 33R  (hidden comment: Resistor)
Resistor,33R,0402,1%,1/16W; Internal_Part_Number: MCD-00455; Manufacturer_Part_Number: RC0402FR-0733RL; Manufacturer: YAGEO; Provided_By: Subcon; Status: Released; Part_Type: Resistor; Package: R0402; ComponentLink1Description: Yageo_Resistor_RC0402-series.pdf; ComponentLink1URL: http://tunmcdsvn.tun.st.com/Component_Datasheet_Library/Trunk/Resistors/Yageo_Resistor_RC0402-series; ECCN_US: n/a; ECCN_EU: n/a
footprint R0402
pins: 1, 2

## MCD-00485
designator R?, comment value 51R  (hidden comment: Resistor)
Resistor,51R,0402,1%,1/16W; Internal_Part_Number: MCD-00485; Manufacturer_Part_Number: RC0402FR-0751RL; Manufacturer: YAGEO; Provided_By: Subcon; Status: Released; Part_Type: Resistor; Package: R0402; ComponentLink1Description: Yageo_Resistor_RC0402-series.pdf; ComponentLink1URL: http://tunmcdsvn.tun.st.com/Component_Datasheet_Library/Trunk/Resistors/Yageo_Resistor_RC0402-series; ECCN_US: n/a; ECCN_EU: n/a
footprint R0402
pins: 1, 2

## MCD-00485_1
designator R?, comment value 51R  (hidden comment: Resistor)
Resistor,51R,0402,1%,1/16W; Internal_Part_Number: MCD-00485; Manufacturer_Part_Number: RC0402FR-0751RL; Manufacturer: YAGEO; Provided_By: Subcon; Status: Released; Part_Type: Resistor; Package: R0402; ComponentLink1Description: Yageo_Resistor_RC0402-series.pdf; ComponentLink1URL: http://tunmcdsvn.tun.st.com/Component_Datasheet_Library/Trunk/Resistors/Yageo_Resistor_RC0402-series; ECCN_US: n/a; ECCN_EU: n/a
footprint R0402
pins: 1, 2

## MCD-00499
designator R?, comment value 620R  (hidden comment: Resistor)
Resistor,620R,0402,1%,1/16W; Internal_Part_Number: MCD-00499; Manufacturer_Part_Number: RC0402FR-07620RL; Manufacturer: YAGEO; Provided_By: Subcon; Status: Released; Part_Type: Resistor; Package: R0402; ComponentLink1Description: Yageo_Resistor_RC0402-series.pdf; ComponentLink1URL: http://tunmcdsvn.tun.st.com/Component_Datasheet_Library/Trunk/Resistors/Yageo_Resistor_RC0402-series; ECCN_US: n/a; ECCN_EU: n/a
footprint R0402
pins: 1, 2

## MCD-00507
designator R?, comment value 680R  (hidden comment: Resistor)
Resistor,680R,0402,1%,1/16W; Internal_Part_Number: MCD-00507; Manufacturer_Part_Number: RC0402FR-07680RL; Manufacturer: YAGEO; Provided_By: Subcon; Status: Released; Part_Type: Resistor; Package: R0402; ComponentLink1Description: Yageo_Resistor_RC0402-series.pdf; ComponentLink1URL: http://tunmcdsvn.tun.st.com/Component_Datasheet_Library/Trunk/Resistors/Yageo_Resistor_RC0402-series; ECCN_US: n/a; ECCN_EU: n/a
footprint R0402
pins: 1, 2

## MCD-00507_1
designator R?, comment value 680R  (hidden comment: Resistor)
Resistor,680R,0402,1%,1/16W; Internal_Part_Number: MCD-00507; Manufacturer_Part_Number: RC0402FR-07680RL; Manufacturer: YAGEO; Provided_By: Subcon; Status: Released; Part_Type: Resistor; Package: R0402; ComponentLink1Description: Yageo_Resistor_RC0402-series.pdf; ComponentLink1URL: http://tunmcdsvn.tun.st.com/Component_Datasheet_Library/Trunk/Resistors/Yageo_Resistor_RC0402-series; ECCN_US: n/a; ECCN_EU: n/a
footprint R0402
pins: 1, 2

## MCD-00549
designator HW?, comment value STM32H745I-Disco  (hidden comment: STICKER_BOARD_CPN)  (mechanical)
Sticker to mention board CPN code; Internal_Part_Number: MCD-00549; Part_Type: Mechanical; Provided_By: Subcon; Initial_Board_Reference: mb1319; ECCN_US: n/a; ECCN_EU: n/a; Status: Released
text: BOARD CPN

## MCD-00549_1
designator HW?, comment value STM32H745I-Disco  (hidden comment: STICKER_BOARD_CPN)  (mechanical)
Sticker to mention board CPN code; Internal_Part_Number: MCD-00549; Part_Type: Mechanical; Provided_By: Subcon; Initial_Board_Reference: mb1319; ECCN_US: n/a; ECCN_EU: n/a; Status: Released
text: BOARD CPN

## MCD-00552
designator L?, comment Manufacturer_Part_Number: FCM1608KF-601T03  (hidden comment: BEAD)
Bead,600R,350mA,0603; Internal_Part_Number: MCD-00552; Part_Type: Inductor; Manufacturer: TAI-TECH; Provided_By: Subcon; Status: Released; ComponentLink1Description: TaiTech_Bead_FCM1608_series.pdf; ComponentLink1URL: http://tunmcdsvn.tun.st.com/Component_Datasheet_Library/Trunk/Inductors/TaiTech_Bead_FCM1608_series; ECCN_US: n/a; ECCN_EU: n/a
footprint L0603
pins: 1, 2

## MCD-00552_1
designator L?, comment Manufacturer_Part_Number: FCM1608KF-601T03  (hidden comment: BEAD)
Bead,600R,350mA,0603; Internal_Part_Number: MCD-00552; Part_Type: Inductor; Manufacturer: TAI-TECH; Provided_By: Subcon; Status: Released; ComponentLink1Description: TaiTech_Bead_FCM1608_series.pdf; ComponentLink1URL: http://tunmcdsvn.tun.st.com/Component_Datasheet_Library/Trunk/Inductors/TaiTech_Bead_FCM1608_series; ECCN_US: n/a; ECCN_EU: n/a
footprint L0603
pins: 1, 2

## MCD-00563
designator C?, comment value 1.5pF  (hidden comment: Capacitor)
Capacitor, MLCC, 1.5pF, 50V, NPO, +-0.25pF, 0402, T=0,5mm; Internal_Part_Number: MCD-00563; Manufacturer_Part_Number: CC0402CRNPO9BN1R5; Manufacturer: YAGEO; Provided_By: Subcon; Initial_Board_Reference: MB1331; Status: Released; Part_Type: Capacitor; Package: C0402; ComponentLink1Description: Yageo_Capacitor_NP0_16V-to-50V.pdf; ComponentLink1URL: http://tunmcdsvn.tun.st.com/Component_Datasheet_Library/Trunk/Capacitors/Yageo_Capacitor_NP0_16V-to-50V; ECCN_US: n/a; ECCN_EU: n/a
footprint C0402
pins: 1, 2

## MCD-00594
designator C?, comment value 1uF  (hidden comment: Cap_POL_TANA)
Capacitor, Tantalum, 1uF, 35V, +/-10%, 595D case A; Internal_Part_Number: MCD-00594; Manufacturer_Part_Number: 595D105X9035A2T; Manufacturer: VISHAY; Order_Code_RS: 117-404; Provided_By: Subcon; Initial_Board_Reference: MB1331; Revision: July-2002: Re-released for DXP Platform.; Status: Footprint available; Part_Type: Capacitor; ComponentLink1Description: VISHAY_CAPACITOR_TANTALUM_595D.pdf; ComponentLink1URL: http://tunmcdsvn.tun.st.com/Component_Datasheet_Library/Trunk/Capacitors/VISHAY_CAPACITOR_TANTALUM_595D; Order_Code_Digikey: 595D105X9035A2T-ND; Order_Code_Farnell: 1166819
footprint CPOL_VISHAY_TANTAL-595D_1407_H220
pins: 1, 2

## MCD-00594_1
designator C?, comment value 1uF  (hidden comment: Cap_POL_TANA)
Capacitor, Tantalum, 1uF, 35V, +/-10%, 595D case A; Internal_Part_Number: MCD-00594; Manufacturer_Part_Number: 595D105X9035A2T; Manufacturer: VISHAY; Order_Code_RS: 117-404; Provided_By: Subcon; Initial_Board_Reference: MB1331; Revision: July-2002: Re-released for DXP Platform.; Status: Footprint available; Part_Type: Capacitor; ComponentLink1Description: VISHAY_CAPACITOR_TANTALUM_595D.pdf; ComponentLink1URL: http://tunmcdsvn.tun.st.com/Component_Datasheet_Library/Trunk/Capacitors/VISHAY_CAPACITOR_TANTALUM_595D; Order_Code_Digikey: 595D105X9035A2T-ND; Order_Code_Farnell: 1166819
footprint CPOL_VISHAY_TANTAL-595D_1407_H220
pins: 1, 2

## MCD-00595
designator C?, comment value 4.7uF  (hidden comment: Cap_POL_TANA)
Capacitor, Tantalum, 4.7uF, 16V, +/-10%, 595D case A; Internal_Part_Number: MCD-00595; Manufacturer_Part_Number: 595D475X9016A2T; Manufacturer: VISHAY; Order_Code_RS: 117-303; Provided_By: Subcon; Initial_Board_Reference: MB1331; Revision: July-2002: Re-released for DXP Platform.; Status: Footprint available; Part_Type: Capacitor; ComponentLink1Description: VISHAY_CAPACITOR_TANTALUM_595D.pdf; ComponentLink1URL: http://tunmcdsvn.tun.st.com/Component_Datasheet_Library/Trunk/Capacitors/VISHAY_CAPACITOR_TANTALUM_595D; Order_Code_Digikey: 595D475X9016A2T-ND; Order_Code_Farnell: 1166805
footprint CPOL_VISHAY_TANTAL-595D_1407_H220
pins: 1, 2

## MCD-00595_1
designator C?, comment value 4.7uF  (hidden comment: Cap_POL_TANA)
Capacitor, Tantalum, 4.7uF, 16V, +/-10%, 595D case A; Internal_Part_Number: MCD-00595; Manufacturer_Part_Number: 595D475X9016A2T; Manufacturer: VISHAY; Order_Code_RS: 117-303; Provided_By: Subcon; Initial_Board_Reference: MB1331; Revision: July-2002: Re-released for DXP Platform.; Status: Footprint available; Part_Type: Capacitor; ComponentLink1Description: VISHAY_CAPACITOR_TANTALUM_595D.pdf; ComponentLink1URL: http://tunmcdsvn.tun.st.com/Component_Datasheet_Library/Trunk/Capacitors/VISHAY_CAPACITOR_TANTALUM_595D; Order_Code_Digikey: 595D475X9016A2T-ND; Order_Code_Farnell: 1166805
footprint CPOL_VISHAY_TANTAL-595D_1407_H220
pins: 1, 2

## MCD-00597
designator X?, comment value 25MHz  (hidden comment: Oscillator_4pins)
Oscillator 25.00Mhz, -+50PPM, 3.3V, Temp -55 to +125°C; Internal_Part_Number: MCD-00597; Part_Type: Crystal_Osc; Manufacturer_Part_Number: NZ2520SB 25MHz END4869B; Manufacturer: NDK; Alternate_Manufacturer_Part_Number: KC2520B25.0000C10E00; Alternate_Manufacturer: AVX CORP/KYOCERA CORP; Provided_By: STM; Initial_Board_Reference: MB1331; Status: Footprint available; ComponentLink1Description: NDK_OSCILLATOR_NZ2520SB.pdf; ComponentLink1URL: http://tunmcdsvn.tun.st.com/Component_Datasheet_Library/Trunk/Crystal_Osc/NDK_OSCILLATOR_NZ2520SB; Order_Code_Digikey: 478-4780-1-ND; ECCN_US: n/a; ECCN_EU: n/a
footprint OSC_NDK_NZ2520SB_4P
pins: 1 EN, 2 GND, 3 OUT, 4 VDD